# Altium footprint library FI_MURATA_PLx10.PcbLib: 1 footprints
Each footprint in its own frame and in the unit in brackets; x right, y up, seen from the top. Pads: shape width x height; smd on the part's side, far side on the other; paste and mask are expansions set on the pad; w line width, h text height; cw(c..) or ccw(c..) is an arc to the next point about the centre after c.
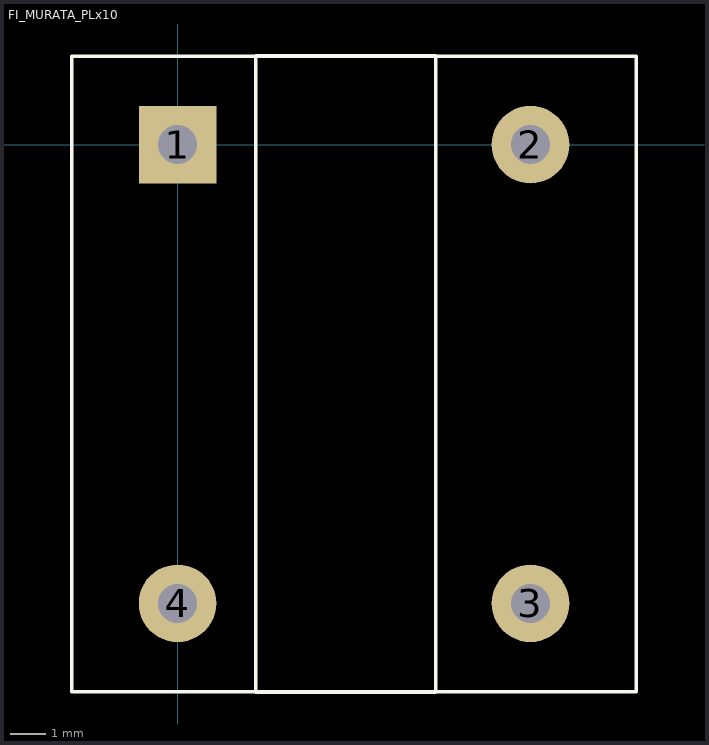
[diagram p0: the footprint, top view; thin cyan lines are the x and y axes]

## FI_MURATA_PLx10 [mm]
pads (4):
  rect 2.2x2.2 hole 1.1: 1(0,0)
  round 2.2 hole 1.1: 2(10.001,0) 3(10.001,-13.001) 4(0,-13.001)
Top Overlay:
  lines w0.102: -3,-15.501 -3,2.499 13,2.499 13,-15.501 -3,-15.501 ; 2.21,-15.518 2.21,2.516 7.315,2.516 7.315,-15.518 2.21,-15.518
3D body: height 17.5, standoff 0, extent -3.051,-15.569 13.051,2.567